# Altium integrated library N-Channel FET.IntLib: 448 symbols (part 8 of 8)
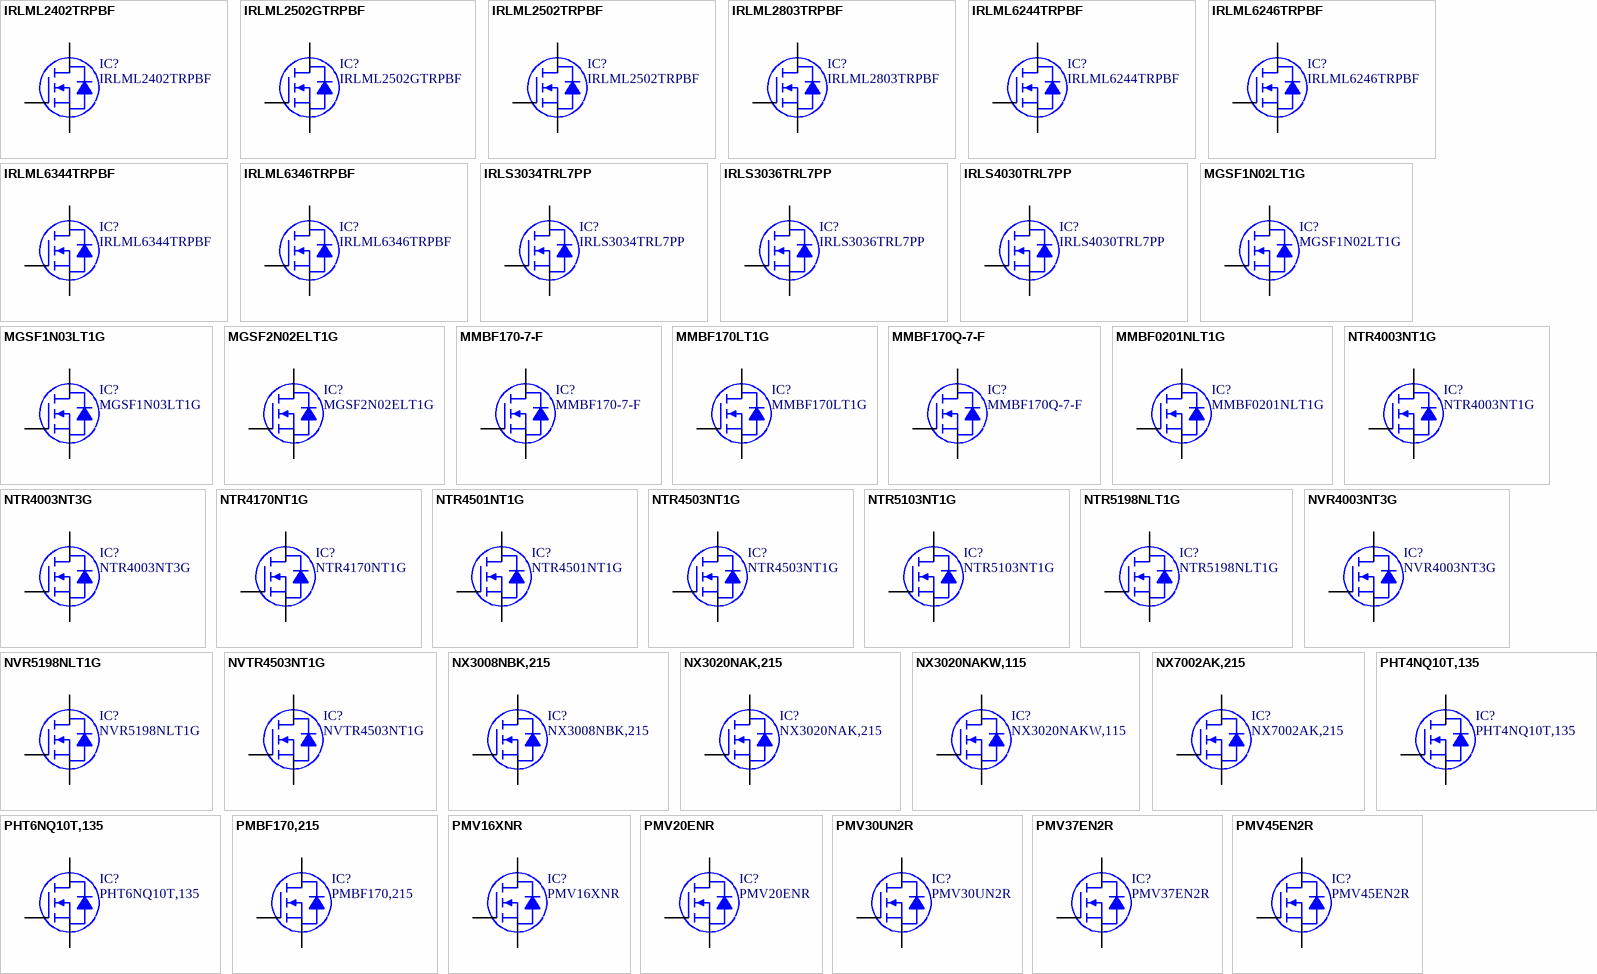
[diagram p18: symbols IRLML2402TRPBF to PMV45EN2R]

## NX3020NAK,215
designator IC?
MOSFET N-CH 30V 200MA TO-236AB; Manufacturer: NXP USA Inc.; Rds On (Max) at Id, Vgs: 4.5 Ohm @ 100mA, 10V; Vgs(th) (Max) at Id: 20V; Gate Charge (Qg): 0.44nC @ 4.5V; Input Capacitance (Ciss) at Vds: 13pF @ 10V; Current Continuous Drain: 200mA (Ta); Part Number: NX3020NAK,215; PartId: 29589; Supplier 1: Digi-Key; Supplier Part Number 1: 568-10504-1-ND; ComponentLink1Description: Datasheet; ComponentLink1URL: http://www.nxp.com/documents/data_sheet/NX3020NAK.pdf; ComponentLink2Description: Digi-Key Listing; ComponentLink2URL: https://www.digikey.com/product-detail/en/nxp-usa-inc/NX3020NAK,215/568-10504-1-ND/4386089; Price: 0.31; Type: N-Channel; Device Package: TO-236-3, SC-59, SOT-23-3; Drain to Source Voltage (Vdss): 30V
footprint NXP SOT-23-3 TO-236AB
pins: 1 G, 2 D, 3 S

## NX3020NAKW,115
designator IC?
MOSFET N-CH 30V 180MA SOT323; Manufacturer: NXP Semiconductors; Rds On (Max) at Id, Vgs: 4.5 Ohm @ 100mA, 10V; Vgs(th) (Max) at Id: 1.5V @ 250uA; Gate Charge (Qg): 0.44nC @ 4.5V; Input Capacitance (Ciss) at Vds: 13pF @ 10V; Power - Max: 260mW; Current Continuous Drain: 180mA (Ta); Part Number: NX3020NAKW,115; PartId: 8080; Supplier 1: Digi-Key; Supplier Part Number 1: 568-10508-2-ND; ComponentLink1Description: Datasheet; ComponentLink1URL: http://www.nxp.com/documents/data_sheet/NX3020NAKW.pdf; ComponentLink2Description: Digi-Key Listing; ComponentLink2URL: http://www.digikey.com/product-detail/en/NX3020NAKW,115/568-10508-2-ND/3679428; Price: 0.0369; Type: MOSFET N-Channel, Metal Oxide; Device Package: SC-70, SOT-323; Drain to Source Voltage (Vdss): 30V; Features: Standard
footprint NXP SOT-323-3
pins: 1 G, 2 D, 3 S

## NX7002AK,215
designator IC?
MOSFET N-CH 60V TO-236AB; Manufacturer: NXP USA Inc.; Rds On (Max) at Id, Vgs: 4.5 Ohm @ 100mA, 10V; Vgs(th) (Max) at Id: 20V; Gate Charge (Qg): 0.43nC @ 4.5V; Input Capacitance (Ciss) at Vds: 17pF @ 10V; Current Continuous Drain: 190mA (Ta); Part Number: NX7002AK,215; PartId: 29591; Supplier 1: Digi-Key; Supplier Part Number 1: 568-10510-1-ND; ComponentLink1Description: Datasheet; ComponentLink1URL: http://www.nxp.com/documents/data_sheet/NX7002AK.pdf; ComponentLink2Description: Digi-Key Listing; ComponentLink2URL: https://www.digikey.com/product-detail/en/nxp-usa-inc/NX7002AK,215/568-10510-1-ND/4386095; Price: 0.4; Type: N-Channel; Device Package: TO-236-3, SC-59, SOT-23-3; Drain to Source Voltage (Vdss): 60V
footprint NXP SOT-23-3 TO-236AB
pins: 1 G, 2 D, 3 S

## PHT4NQ10T,135
designator IC?
MOSFET N-CH 100V 3.5A SOT223; Manufacturer: NXP USA Inc.; Rds On (Max) at Id, Vgs: 250 mOhm @ 1.75A, 10V; Vgs(th) (Max) at Id: 20V; Gate Charge (Qg): 7.4nC @ 10V; Input Capacitance (Ciss) at Vds: 300pF @ 25V; Current Continuous Drain: 3.5A (Tc); Part Number: PHT4NQ10T,135; PartId: 29634; Supplier 1: Digi-Key; Supplier Part Number 1: 568-6777-1-ND; ComponentLink1Description: Datasheet; ComponentLink1URL: http://www.nxp.com/documents/data_sheet/PHT4NQ10T.pdf; ComponentLink2Description: Digi-Key Listing; ComponentLink2URL: https://www.digikey.com/product-detail/en/nxp-usa-inc/PHT4NQ10T,135/568-6777-1-ND/2676817; Price: 0.92; Type: N-Channel; Device Package: TO-261-4, TO-261AA; Drain to Source Voltage (Vdss): 100V
footprint NXP SOT-223
pins: 1 G, 2 D, 3 S, 4 D

## PHT6NQ10T,135
designator IC?
MOSFET N-CH 100V 3A SOT223; Manufacturer: NXP USA Inc.; Rds On (Max) at Id, Vgs: 90 mOhm @ 3A, 10V; Vgs(th) (Max) at Id: 20V; Gate Charge (Qg): 21nC @ 10V; Input Capacitance (Ciss) at Vds: 633pF @ 25V; Current Continuous Drain: 3A (Ta); Part Number: PHT6NQ10T,135; PartId: 29636; Supplier 1: Digi-Key; Supplier Part Number 1: 568-6791-1-ND; ComponentLink1Description: Datasheet; ComponentLink1URL: http://www.nxp.com/documents/data_sheet/PHT6NQ10T.pdf; ComponentLink2Description: Digi-Key Listing; ComponentLink2URL: https://www.digikey.com/product-detail/en/nxp-usa-inc/PHT6NQ10T,135/568-6791-1-ND/2676831; Price: 1.44; Type: N-Channel; Device Package: TO-261-4, TO-261AA; Drain to Source Voltage (Vdss): 100V
footprint NXP SOT-223
pins: 1 G, 2 D, 3 S, 4 D

## PMBF170,215
designator IC?
MOSFET N-CH 60V 300MA SOT-23; Manufacturer: NXP USA Inc.; Rds On (Max) at Id, Vgs: 5 Ohm @ 500mA, 10V; Vgs(th) (Max) at Id: 20V; Input Capacitance (Ciss) at Vds: 40pF @ 10V; Current Continuous Drain: 300mA (Ta); Part Number: PMBF170,215; PartId: 29597; Supplier 1: Digi-Key; Supplier Part Number 1: 568-6477-1-ND; ComponentLink1Description: Datasheet; ComponentLink1URL: http://www.nxp.com/documents/data_sheet/PMBF170.pdf; ComponentLink2Description: Digi-Key Listing; ComponentLink2URL: https://www.digikey.com/product-detail/en/nxp-usa-inc/PMBF170,215/568-6477-1-ND/2531764; Price: 0.54; Type: N-Channel; Device Package: TO-236-3, SC-59, SOT-23-3; Drain to Source Voltage (Vdss): 60V
footprint NXP SOT-23-3 TO-236AB
pins: 1 G, 2 D, 3 S

## PMV16XNR
designator IC?
MOSFET N-CH 20V SOT23; Manufacturer: NXP Semiconductors; Rds On (Max) at Id, Vgs: 20 mOhm @ 6.8A, 4.5V; Vgs(th) (Max) at Id: 900mV @ 250uA; Gate Charge (Qg): 20.2nC @ 4.5V; Input Capacitance (Ciss) at Vds: 1240pF @ 10V; Power - Max: 510mW; Current Continuous Drain: 6.8A (Ta); Part Number: PMV16XNR; PartId: 8073; Supplier 1: Digi-Key; Supplier Part Number 1: 568-12586-2-ND; ComponentLink1Description: Datasheet; ComponentLink1URL: http://www.nxp.com/documents/data_sheet/PMV16XN.pdf; ComponentLink2Description: Digi-Key Listing; ComponentLink2URL: http://www.digikey.com/product-detail/en/PMV16XNR/568-12586-2-ND/5395791; Price: 0.1072; Type: MOSFET N-Channel, Metal Oxide; Device Package: TO-236-3, SC-59, SOT-23-3; Drain to Source Voltage (Vdss): 20V; Features: Standard
footprint NXP SOT-23-3 TO-236AB
pins: 1 G, 2 D, 3 S

## PMV20ENR
designator IC?
MOSFET N-CH 30V SOT23; Manufacturer: NXP Semiconductors; Rds On (Max) at Id, Vgs: 21 mOhm @ 6A, 10V; Vgs(th) (Max) at Id: 2V @ 250uA; Gate Charge (Qg): 10.8nC @ 10V; Input Capacitance (Ciss) at Vds: 435pF @ 15V; Power - Max: 510mW; Current Continuous Drain: 6A (Ta); Part Number: PMV20ENR; PartId: 8074; Supplier 1: Digi-Key; Supplier Part Number 1: 568-12587-2-ND; ComponentLink1Description: Datasheet; ComponentLink1URL: http://www.nxp.com/documents/data_sheet/PMV20EN.pdf; ComponentLink2Description: Digi-Key Listing; ComponentLink2URL: http://www.digikey.com/product-detail/en/PMV20ENR/568-12587-2-ND/5395792; Price: 0.1072; Type: MOSFET N-Channel, Metal Oxide; Device Package: TO-236-3, SC-59, SOT-23-3; Drain to Source Voltage (Vdss): 30V; Features: Logic Level Gate
footprint NXP SOT-23-3 TO-236AB
pins: 1 G, 2 D, 3 S

## PMV30UN2R
designator IC?
MOSFET N-CH 20V SOT23; Manufacturer: NXP USA Inc.; Rds On (Max) at Id, Vgs: 32 mOhm @ 4.2A, 4.5V; Vgs(th) (Max) at Id: 12V; Gate Charge (Qg): 11nC @ 4.5V; Input Capacitance (Ciss) at Vds: 655pF @ 10V; Current Continuous Drain: 4.2A (Ta); Part Number: PMV30UN2R; PartId: 29586; Supplier 1: Digi-Key; Supplier Part Number 1: 568-12591-1-ND; ComponentLink1Description: Datasheet; ComponentLink1URL: http://www.nxp.com/documents/data_sheet/PMV30UN2.pdf; ComponentLink2Description: Digi-Key Listing; ComponentLink2URL: https://www.digikey.com/product-detail/en/nxp-usa-inc/PMV30UN2R/568-12591-1-ND/5395607; Price: 0.67; Type: N-Channel; Device Package: TO-236-3, SC-59, SOT-23-3; Drain to Source Voltage (Vdss): 20V
footprint NXP SOT-23-3 TO-236AB
pins: 1 G, 2 D, 3 S

## PMV37EN2R
designator IC?
MOSFET N-CH 30V SOT23; Manufacturer: NXP USA Inc.; Rds On (Max) at Id, Vgs: 36 mOhm @ 4.5A, 10V; Vgs(th) (Max) at Id: 20V; Gate Charge (Qg): 6.3nC @ 10V; Input Capacitance (Ciss) at Vds: 209pF @ 15V; Current Continuous Drain: 4.5A (Ta); Part Number: PMV37EN2R; PartId: 29599; Supplier 1: Digi-Key; Supplier Part Number 1: 568-12592-1-ND; ComponentLink1Description: Datasheet; ComponentLink1URL: http://www.nxp.com/documents/data_sheet/PMV37EN2.pdf; ComponentLink2Description: Digi-Key Listing; ComponentLink2URL: https://www.digikey.com/product-detail/en/nxp-usa-inc/PMV37EN2R/568-12592-1-ND/5395608; Price: 0.67; Type: N-Channel; Device Package: TO-236-3, SC-59, SOT-23-3; Drain to Source Voltage (Vdss): 30V
footprint NXP SOT-23-3 TO-236AB
pins: 1 G, 2 D, 3 S

## PMV45EN2R
designator IC?
MOSFET N-CH 30V SOT23; Manufacturer: NXP USA Inc.; Rds On (Max) at Id, Vgs: 42 mOhm @ 4.1A, 10V; Vgs(th) (Max) at Id: 20V; Gate Charge (Qg): 6.3nC @ 10V; Input Capacitance (Ciss) at Vds: 209pF @ 15V; Current Continuous Drain: 4.1A (Ta); Part Number: PMV45EN2R; PartId: 29582; Supplier 1: Digi-Key; Supplier Part Number 1: 568-12593-1-ND; ComponentLink1Description: Datasheet; ComponentLink1URL: http://www.nxp.com/documents/data_sheet/PMV45EN2.pdf; ComponentLink2Description: Digi-Key Listing; ComponentLink2URL: https://www.digikey.com/product-detail/en/nxp-usa-inc/PMV45EN2R/568-12593-1-ND/5395609; Price: 0.63; Type: N-Channel; Device Package: TO-236-3, SC-59, SOT-23-3; Drain to Source Voltage (Vdss): 30V
footprint NXP SOT-23-3 TO-236AB
pins: 1 G, 2 D, 3 S

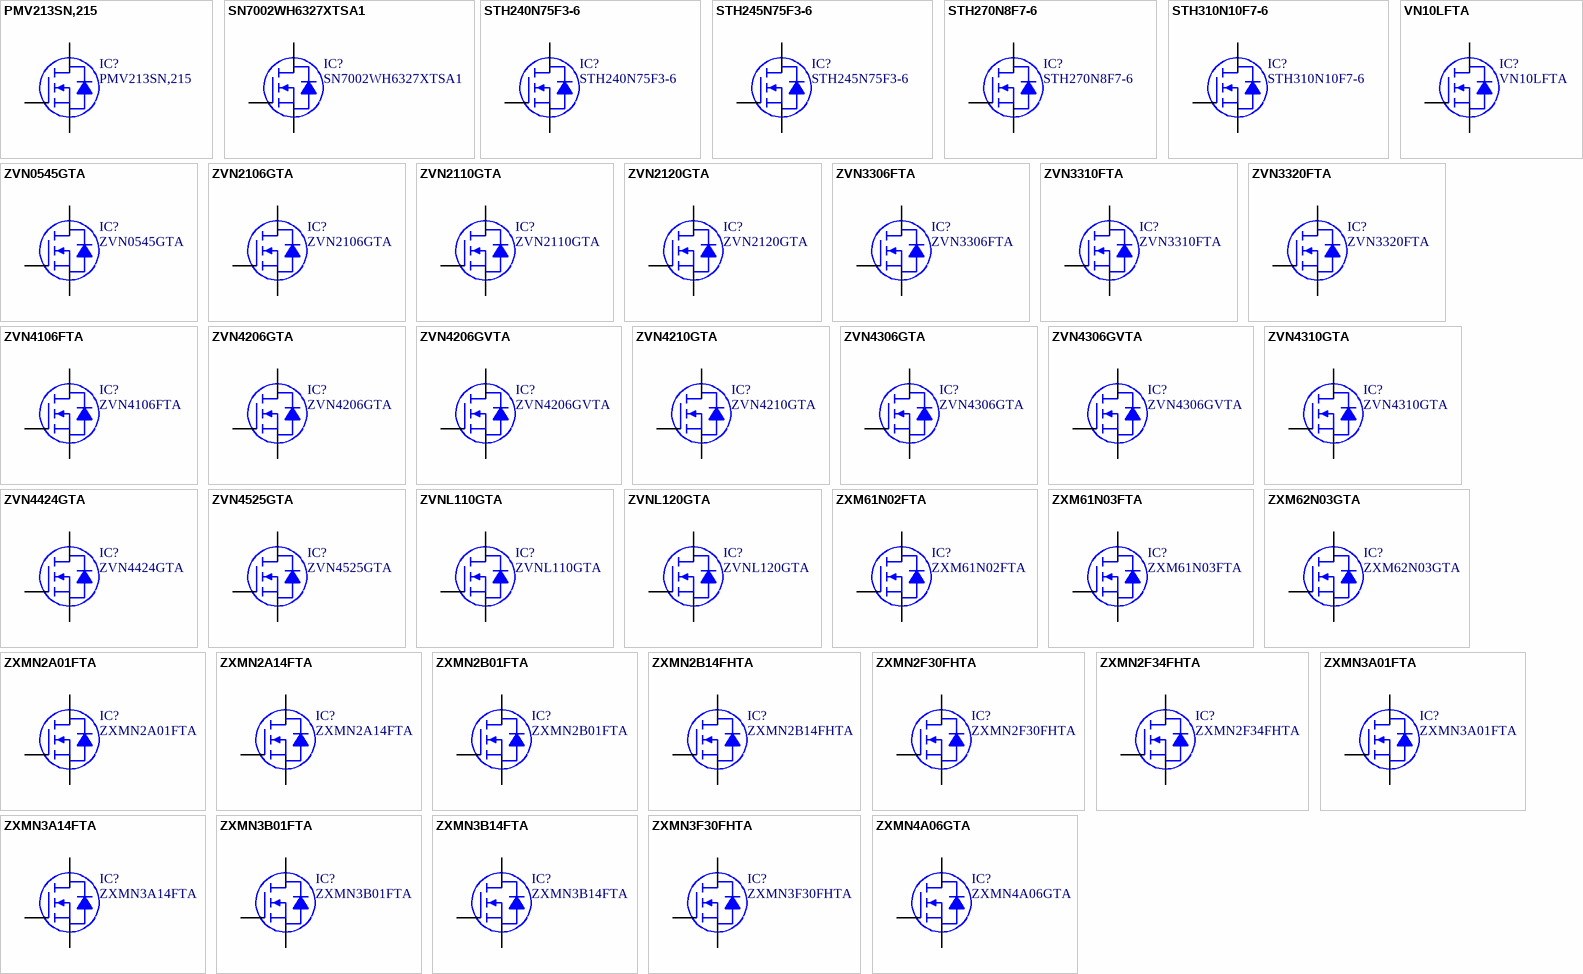
[diagram p10: symbols PMV213SN,215 to ZXMN4A06GTA]

## PMV213SN,215
designator IC?
MOSFET N-CH 100V 1.9A SOT23; Manufacturer: NXP USA Inc.; Rds On (Max) at Id, Vgs: 250 mOhm @ 500mA, 10V; Vgs(th) (Max) at Id: 30V; Gate Charge (Qg): 7nC @ 10V; Input Capacitance (Ciss) at Vds: 330pF @ 20V; Current Continuous Drain: 1.9A (Tc); Part Number: PMV213SN,215; PartId: 29587; Supplier 1: Digi-Key; Supplier Part Number 1: 568-8112-1-ND; ComponentLink1Description: Datasheet; ComponentLink1URL: http://www.nxp.com/documents/data_sheet/PMV213SN.pdf; ComponentLink2Description: Digi-Key Listing; ComponentLink2URL: https://www.digikey.com/product-detail/en/nxp-usa-inc/PMV213SN,215/568-8112-1-ND/2762802; Price: 0.81; Type: N-Channel; Device Package: TO-236-3, SC-59, SOT-23-3; Drain to Source Voltage (Vdss): 100V
footprint NXP SOT-23-3 TO-236AB
pins: 1 G, 2 D, 3 S

## SN7002WH6327XTSA1
designator IC?
MOSFET N-CH 60V 230MA SOT-323; Manufacturer: Infineon Technologies; Rds On (Max) at Id, Vgs: 5 Ohm @ 230mA, 10V; Vgs(th) (Max) at Id: 1.8V @ 26uA; Gate Charge (Qg): 1.5nC @ 10V; Input Capacitance (Ciss) at Vds: 45pF @ 25V; Power - Max: 500mW; Current Continuous Drain: 230mA (Ta); Part Number: SN7002WH6327XTSA1; PartId: 8083; Supplier 1: Digi-Key; Supplier Part Number 1: SN7002WH6327XTSA1TR-ND; ComponentLink1Description: Datasheet; ComponentLink1URL: http://www.infineon.com/dgdl/Infineon-SN7002W-DS-v02_05-en.pdf?fileId=db3a3043344adb9d0134569a59ab6195; ComponentLink2Description: Digi-Key Listing; ComponentLink2URL: http://www.digikey.com/product-detail/en/SN7002WH6327XTSA1/SN7002WH6327XTSA1TR-ND/5410145; Price: 0.0462; Type: MOSFET N-Channel, Metal Oxide; Device Package: SC-70, SOT-323; Drain to Source Voltage (Vdss): 60V; Features: Logic Level Gate
footprint INFINEON SOT-323-3
pins: 1 G, 2 D, 3 S

## STH240N75F3-6
designator IC?
MOSFET N-CH 75V 180A H2PAK; Manufacturer: STMicroelectronics; Rds On (Max) at Id, Vgs: 3 mOhm @ 90A, 10V; Vgs(th) (Max) at Id: 4V @ 250uA; Gate Charge (Qg): 100nC @ 10V; Input Capacitance (Ciss) at Vds: 6800pF @ 25V; Power - Max: 300W; Current Continuous Drain: 180A (Tc); Part Number: STH240N75F3-6; PartId: 8047; Supplier 1: Digi-Key; Supplier Part Number 1: 497-11841-2-ND; ComponentLink1Description: Datasheet; ComponentLink1URL: http://www.st.com/web/en/resource/technical/document/datasheet/DM00022877.pdf; ComponentLink2Description: Digi-Key Listing; ComponentLink2URL: http://www.digikey.com/product-detail/en/STH240N75F3-6/497-11841-2-ND/2756490; Price: 3.304; Type: MOSFET N-Channel, Metal Oxide; Device Package: TO-263-7, DPak (6 Leads + Tab); Drain to Source Voltage (Vdss): 75V; Features: Standard
footprint ST TO-263-7
pins: 1 G, 2 S, 3 S, 5 S, 6 S, 7 S, 8 D

## STH245N75F3-6
designator IC?
MOSFET N-CH 75V 180A H2PAK-6; Manufacturer: STMicroelectronics; Rds On (Max) at Id, Vgs: 3 mOhm @ 90A, 10V; Vgs(th) (Max) at Id: 4V @ 250uA; Gate Charge (Qg): 87nC @ 10V; Input Capacitance (Ciss) at Vds: 6800pF @ 25V; Power - Max: 300W; Current Continuous Drain: 180A (Tc); Part Number: STH245N75F3-6; PartId: 8046; Supplier 1: Digi-Key; Supplier Part Number 1: 497-15470-2-ND; ComponentLink1Description: Datasheet; ComponentLink1URL: http://www.st.com/web/en/resource/technical/document/datasheet/DM00114770.pdf; ComponentLink2Description: Digi-Key Listing; ComponentLink2URL: http://www.digikey.com/product-detail/en/STH245N75F3-6/497-15470-2-ND/5244726; Price: 3.0716; Type: MOSFET N-Channel, Metal Oxide; Device Package: TO-263-7, DPak (6 Leads + Tab); Drain to Source Voltage (Vdss): 75V; Features: Standard
footprint ST TO-263-7
pins: 1 G, 2 S, 3 S, 5 S, 6 S, 7 S, 8 D

## STH270N8F7-6
designator IC?
MOSFET N-CH 80V 180A H2PAK-6; Manufacturer: STMicroelectronics; Rds On (Max) at Id, Vgs: 2.1 mOhm @ 90A, 10V; Vgs(th) (Max) at Id: 4V @ 250uA; Gate Charge (Qg): 193nC @ 10V; Input Capacitance (Ciss) at Vds: 13600pF @ 50V; Power - Max: 315W; Current Continuous Drain: 180A (Tc); Part Number: STH270N8F7-6; PartId: 8045; Supplier 1: Digi-Key; Supplier Part Number 1: 497-13874-2-ND; ComponentLink1Description: Datasheet; ComponentLink1URL: http://www.st.com/web/en/resource/technical/document/datasheet/DM00071594.pdf; ComponentLink2Description: Digi-Key Listing; ComponentLink2URL: http://www.digikey.com/product-detail/en/STH270N8F7-6/497-13874-2-ND/4250809; Price: 3.8596; Type: MOSFET N-Channel, Metal Oxide; Device Package: TO-263-7, DPak (6 Leads + Tab); Drain to Source Voltage (Vdss): 80V; Features: Standard
footprint ST TO-263-7
pins: 1 G, 2 S, 3 S, 5 S, 6 S, 7 S, 8 D

## STH310N10F7-6
designator IC?
MOSFET N-CH 100V 180A H2PAK-2; Manufacturer: STMicroelectronics; Rds On (Max) at Id, Vgs: 2.5 mOhm @ 60A, 10V; Vgs(th) (Max) at Id: 3.8V @ 250uA; Gate Charge (Qg): 180nC @ 10V; Input Capacitance (Ciss) at Vds: 12800pF @ 25V; Power - Max: 315W; Current Continuous Drain: 180A (Tc); Part Number: STH310N10F7-6; PartId: 8044; Supplier 1: Digi-Key; Supplier Part Number 1: 497-13586-2-ND; ComponentLink1Description: Datasheet; ComponentLink1URL: http://www.st.com/st-web-ui/static/active/en/resource/technical/document/datasheet/DM00072096.pdf; ComponentLink2Description: Digi-Key Listing; ComponentLink2URL: http://www.digikey.com/product-detail/en/STH310N10F7-6/497-13586-2-ND/3910864; Price: 3.537; Type: MOSFET N-Channel, Metal Oxide; Device Package: TO-263-7, DPak (6 Leads + Tab) Variant; Drain to Source Voltage (Vdss): 100V; Features: Standard
footprint ST TO-263-7
pins: 1 G, 2 S, 3 S, 5 S, 6 S, 7 S, 8 D

## VN10LFTA
designator IC?
MOSFET N-CH 60V 150MA SOT23-3; Manufacturer: Diodes Incorporated; Rds On (Max) at Id, Vgs: 5 Ohm @ 500mA, 10V; Vgs(th) (Max) at Id: 30V; Input Capacitance (Ciss) at Vds: 60pF @ 25V; Current Continuous Drain: 150mA (Ta); Part Number: VN10LFTA; PartId: 29511; Supplier 1: Digi-Key; Supplier Part Number 1: VN10LFCT-ND; ComponentLink1Description: Datasheet; ComponentLink1URL: //media.digikey.com/pdf/Data%20Sheets/Zetex%20PDFs/VN10LF.PDF; ComponentLink2Description: Digi-Key Listing; ComponentLink2URL: https://www.digikey.com/product-detail/en/diodes-incorporated/VN10LFTA/VN10LFCT-ND/92634; Price: 0.76; Type: N-Channel; Device Package: TO-236-3, SC-59, SOT-23-3; Drain to Source Voltage (Vdss): 60V
footprint DIODES SOT-23-3
pins: 1 G, 2 D, 3 S

## ZVN0545GTA
designator IC?
MOSFET N-CH 450V 140MA SOT223; Manufacturer: Diodes Incorporated; Rds On (Max) at Id, Vgs: 50 Ohm @ 100mA, 10V; Vgs(th) (Max) at Id: 20V; Input Capacitance (Ciss) at Vds: 70pF @ 25V; Current Continuous Drain: 140mA (Ta); Part Number: ZVN0545GTA; PartId: 29656; Supplier 1: Digi-Key; Supplier Part Number 1: ZVN0545GCT-ND; ComponentLink1Description: Datasheet; ComponentLink1URL: http://www.diodes.com/_files/datasheets/ZVN0545G.pdf; ComponentLink2Description: Digi-Key Listing; ComponentLink2URL: https://www.digikey.com/product-detail/en/diodes-incorporated/ZVN0545GTA/ZVN0545GCT-ND/152475; Price: 1.25; Type: N-Channel; Device Package: TO-261-4, TO-261AA; Drain to Source Voltage (Vdss): 450V
footprint DIODES SOT-223
pins: 1 G, 2 D, 3 S, 4 D

## ZVN2106GTA
designator IC?
MOSFET N-CH 60V 710MA SOT223; Manufacturer: Diodes Incorporated; Rds On (Max) at Id, Vgs: 2 Ohm @ 1A, 10V; Vgs(th) (Max) at Id: 20V; Input Capacitance (Ciss) at Vds: 75pF @ 18V; Current Continuous Drain: 710mA (Ta); Part Number: ZVN2106GTA; PartId: 29669; Supplier 1: Digi-Key; Supplier Part Number 1: ZVN2106GCT-ND; ComponentLink1Description: Datasheet; ComponentLink1URL: http://www.diodes.com/_files/datasheets/ZVN2106G.pdf; ComponentLink2Description: Digi-Key Listing; ComponentLink2URL: https://www.digikey.com/product-detail/en/diodes-incorporated/ZVN2106GTA/ZVN2106GCT-ND/106458; Price: 1.25; Type: N-Channel; Device Package: TO-261-4, TO-261AA; Drain to Source Voltage (Vdss): 60V
footprint DIODES SOT-223
pins: 1 G, 2 D, 3 S, 4 D

## ZVN2110GTA
designator IC?
MOSFET N-CH 100V 500MA SOT223; Manufacturer: Diodes Incorporated; Rds On (Max) at Id, Vgs: 4 Ohm @ 1A, 10V; Vgs(th) (Max) at Id: 20V; Input Capacitance (Ciss) at Vds: 75pF @ 25V; Current Continuous Drain: 500mA (Ta); Part Number: ZVN2110GTA; PartId: 29657; Supplier 1: Digi-Key; Supplier Part Number 1: ZVN2110GCT-ND; ComponentLink1Description: Datasheet; ComponentLink1URL: http://www.diodes.com/_files/datasheets/ZVN2110G.pdf; ComponentLink2Description: Digi-Key Listing; ComponentLink2URL: https://www.digikey.com/product-detail/en/diodes-incorporated/ZVN2110GTA/ZVN2110GCT-ND/152477; Price: 1.25; Type: N-Channel; Device Package: TO-261-4, TO-261AA; Drain to Source Voltage (Vdss): 100V
footprint DIODES SOT-223
pins: 1 G, 2 D, 3 S, 4 D

## ZVN2120GTA
designator IC?
MOSFET N-CH 200V 320MA SOT223; Manufacturer: Diodes Incorporated; Rds On (Max) at Id, Vgs: 10 Ohm @ 250mA, 10V; Vgs(th) (Max) at Id: 20V; Input Capacitance (Ciss) at Vds: 85pF @ 25V; Current Continuous Drain: 320mA (Ta); Part Number: ZVN2120GTA; PartId: 29667; Supplier 1: Digi-Key; Supplier Part Number 1: ZVN2120GCT-ND; ComponentLink1Description: Datasheet; ComponentLink1URL: http://www.diodes.com/_files/datasheets/ZVN2120G.pdf; ComponentLink2Description: Digi-Key Listing; ComponentLink2URL: https://www.digikey.com/product-detail/en/diodes-incorporated/ZVN2120GTA/ZVN2120GCT-ND/152479; Price: 1.25; Type: N-Channel; Device Package: TO-261-4, TO-261AA; Drain to Source Voltage (Vdss): 200V
footprint DIODES SOT-223
pins: 1 G, 2 D, 3 S, 4 D

## ZVN3306FTA
designator IC?
MOSFET N-CH 60V 150MA SOT23-3; Manufacturer: Diodes Incorporated; Rds On (Max) at Id, Vgs: 5 Ohm @ 500mA, 10V; Vgs(th) (Max) at Id: 20V; Input Capacitance (Ciss) at Vds: 35pF @ 18V; Current Continuous Drain: 150mA (Ta); Part Number: ZVN3306FTA; PartId: 29514; Supplier 1: Digi-Key; Supplier Part Number 1: ZVN3306FCT-ND; ComponentLink1Description: Datasheet; ComponentLink1URL: http://www.diodes.com/_files/datasheets/ZVN3306F.pdf; ComponentLink2Description: Digi-Key Listing; ComponentLink2URL: https://www.digikey.com/product-detail/en/diodes-incorporated/ZVN3306FTA/ZVN3306FCT-ND/92635; Price: 0.88; Type: N-Channel; Device Package: TO-236-3, SC-59, SOT-23-3; Drain to Source Voltage (Vdss): 60V
footprint DIODES SOT-23-3
pins: 1 G, 2 D, 3 S

## ZVN3310FTA
designator IC?
MOSFET N-CH 100V .1A SOT23-3; Manufacturer: Diodes Incorporated; Rds On (Max) at Id, Vgs: 10 Ohm @ 500mA, 10V; Vgs(th) (Max) at Id: 20V; Input Capacitance (Ciss) at Vds: 40pF @ 25V; Current Continuous Drain: 100mA (Ta); Part Number: ZVN3310FTA; PartId: 29513; Supplier 1: Digi-Key; Supplier Part Number 1: ZVN3310FCT-ND; ComponentLink1Description: Datasheet; ComponentLink1URL: http://www.diodes.com/_files/datasheets/ZVN3310F.pdf; ComponentLink2Description: Digi-Key Listing; ComponentLink2URL: https://www.digikey.com/product-detail/en/diodes-incorporated/ZVN3310FTA/ZVN3310FCT-ND/92636; Price: 0.88; Type: N-Channel; Device Package: TO-236-3, SC-59, SOT-23-3; Drain to Source Voltage (Vdss): 100V
footprint DIODES SOT-23-3
pins: 1 G, 2 D, 3 S

## ZVN3320FTA
designator IC?
MOSFET N-CH 200V 60MA SOT23-3; Manufacturer: Diodes Incorporated; Rds On (Max) at Id, Vgs: 25 Ohm @ 100mA, 10V; Vgs(th) (Max) at Id: 20V; Input Capacitance (Ciss) at Vds: 45pF @ 25V; Current Continuous Drain: 60mA (Ta); Part Number: ZVN3320FTA; PartId: 29506; Supplier 1: Digi-Key; Supplier Part Number 1: ZVN3320FCT-ND; ComponentLink1Description: Datasheet; ComponentLink1URL: http://www.diodes.com/_files/datasheets/ZVN3320F.pdf; ComponentLink2Description: Digi-Key Listing; ComponentLink2URL: https://www.digikey.com/product-detail/en/diodes-incorporated/ZVN3320FTA/ZVN3320FCT-ND/152481; Price: 0.63; Type: N-Channel; Device Package: TO-236-3, SC-59, SOT-23-3; Drain to Source Voltage (Vdss): 200V
footprint DIODES SOT-23-3
pins: 1 G, 2 D, 3 S

## ZVN4106FTA
designator IC?
MOSFET N-CH 60V 200MA SOT23-3; Manufacturer: Diodes Incorporated; Rds On (Max) at Id, Vgs: 2.5 Ohm @ 500mA, 10V; Vgs(th) (Max) at Id: 20V; Input Capacitance (Ciss) at Vds: 35pF @ 25V; Current Continuous Drain: 200mA (Ta); Part Number: ZVN4106FTA; PartId: 29516; Supplier 1: Digi-Key; Supplier Part Number 1: ZVN4106FCT-ND; ComponentLink1Description: Datasheet; ComponentLink1URL: http://www.diodes.com/_files/datasheets/ZVN4106F.pdf; ComponentLink2Description: Digi-Key Listing; ComponentLink2URL: https://www.digikey.com/product-detail/en/diodes-incorporated/ZVN4106FTA/ZVN4106FCT-ND/92637; Price: 0.97; Type: N-Channel; Device Package: TO-236-3, SC-59, SOT-23-3; Drain to Source Voltage (Vdss): 60V
footprint DIODES SOT-23-3
pins: 1 G, 2 D, 3 S

## ZVN4206GTA
designator IC?
MOSFET N-CH 60V 1A SOT223; Manufacturer: Diodes Incorporated; Rds On (Max) at Id, Vgs: 1 Ohm @ 1.5A, 10V; Vgs(th) (Max) at Id: 20V; Input Capacitance (Ciss) at Vds: 100pF @ 25V; Current Continuous Drain: 1A (Ta); Part Number: ZVN4206GTA; PartId: 29659; Supplier 1: Digi-Key; Supplier Part Number 1: ZVN4206GCT-ND; ComponentLink1Description: Datasheet; ComponentLink1URL: http://www.diodes.com/_files/datasheets/ZVN4206G.pdf; ComponentLink2Description: Digi-Key Listing; ComponentLink2URL: https://www.digikey.com/product-detail/en/diodes-incorporated/ZVN4206GTA/ZVN4206GCT-ND/152483; Price: 1.35; Type: N-Channel; Device Package: TO-261-4, TO-261AA; Drain to Source Voltage (Vdss): 60V
footprint DIODES SOT-223
pins: 1 G, 2 D, 3 S, 4 D

## ZVN4206GVTA
designator IC?
MOSFET N-CH 60V 1A SOT223; Manufacturer: Diodes Incorporated; Rds On (Max) at Id, Vgs: 1 Ohm @ 1.5A, 10V; Vgs(th) (Max) at Id: 20V; Input Capacitance (Ciss) at Vds: 100pF @ 25V; Current Continuous Drain: 1A (Ta); Part Number: ZVN4206GVTA; PartId: 29649; Supplier 1: Digi-Key; Supplier Part Number 1: ZVN4206GVCT-ND; ComponentLink1Description: Datasheet; ComponentLink1URL: http://www.diodes.com/_files/datasheets/ZVN4206GV.pdf; ComponentLink2Description: Digi-Key Listing; ComponentLink2URL: https://www.digikey.com/product-detail/en/diodes-incorporated/ZVN4206GVTA/ZVN4206GVCT-ND/96083; Price: 1.36; Type: N-Channel; Device Package: TO-261-4, TO-261AA; Drain to Source Voltage (Vdss): 60V
footprint DIODES SOT-223
pins: 1 G, 2 D, 3 S, 4 D

## ZVN4210GTA
designator IC?
MOSFET N-CH 100V 800MA SOT223; Manufacturer: Diodes Incorporated; Rds On (Max) at Id, Vgs: 1.5 Ohm @ 1.5A, 10V; Vgs(th) (Max) at Id: 20V; Input Capacitance (Ciss) at Vds: 100pF @ 25V; Current Continuous Drain: 800mA (Ta); Part Number: ZVN4210GTA; PartId: 29663; Supplier 1: Digi-Key; Supplier Part Number 1: ZVN4210GCT-ND; ComponentLink1Description: Datasheet; ComponentLink1URL: http://www.diodes.com/_files/datasheets/ZVN4210G.pdf; ComponentLink2Description: Digi-Key Listing; ComponentLink2URL: https://www.digikey.com/product-detail/en/diodes-incorporated/ZVN4210GTA/ZVN4210GCT-ND/991773; Price: 1.35; Type: N-Channel; Device Package: TO-261-4, TO-261AA; Drain to Source Voltage (Vdss): 100V
footprint DIODES SOT-223
pins: 1 G, 2 D, 3 S, 4 D

## ZVN4306GTA
designator IC?
MOSFET N-CH 60V 2.1A SOT223; Manufacturer: Diodes Incorporated; Rds On (Max) at Id, Vgs: 330 mOhm @ 3A, 10V; Vgs(th) (Max) at Id: 20V; Input Capacitance (Ciss) at Vds: 350pF @ 25V; Current Continuous Drain: 2.1A (Ta); Part Number: ZVN4306GTA; PartId: 29653; Supplier 1: Digi-Key; Supplier Part Number 1: ZVN4306GCT-ND; ComponentLink1Description: Datasheet; ComponentLink1URL: http://www.diodes.com/_files/datasheets/ZVN4306G.pdf; ComponentLink2Description: Digi-Key Listing; ComponentLink2URL: https://www.digikey.com/product-detail/en/diodes-incorporated/ZVN4306GTA/ZVN4306GCT-ND/190598; Price: 1.99; Type: N-Channel; Device Package: TO-261-4, TO-261AA; Drain to Source Voltage (Vdss): 60V
footprint DIODES SOT-223
pins: 1 G, 2 D, 3 S, 4 D

## ZVN4306GVTA
designator IC?
MOSFET N-CH 60V 2.1A SOT223; Manufacturer: Diodes Incorporated; Rds On (Max) at Id, Vgs: 330 mOhm @ 3A, 10V; Vgs(th) (Max) at Id: 20V; Input Capacitance (Ciss) at Vds: 350pF @ 25V; Current Continuous Drain: 2.1A (Ta); Part Number: ZVN4306GVTA; PartId: 29662; Supplier 1: Digi-Key; Supplier Part Number 1: ZVN4306GVCT-ND; ComponentLink1Description: Datasheet; ComponentLink1URL: http://www.diodes.com/_files/datasheets/ZVN4306GV.pdf; ComponentLink2Description: Digi-Key Listing; ComponentLink2URL: https://www.digikey.com/product-detail/en/diodes-incorporated/ZVN4306GVTA/ZVN4306GVCT-ND/243295; Price: 2.24; Type: N-Channel; Device Package: TO-261-4, TO-261AA; Drain to Source Voltage (Vdss): 60V
footprint DIODES SOT-223
pins: 1 G, 2 D, 3 S, 4 D

## ZVN4310GTA
designator IC?
MOSFET N-CH 100V 1.67A SOT223; Manufacturer: Diodes Incorporated; Rds On (Max) at Id, Vgs: 540 mOhm @ 3.3A, 10V; Vgs(th) (Max) at Id: 20V; Input Capacitance (Ciss) at Vds: 350pF @ 25V; Current Continuous Drain: 1.67A (Ta); Part Number: ZVN4310GTA; PartId: 29670; Supplier 1: Digi-Key; Supplier Part Number 1: ZVN4310GCT-ND; ComponentLink1Description: Datasheet; ComponentLink1URL: http://www.diodes.com/_files/datasheets/ZVN4310G.pdf; ComponentLink2Description: Digi-Key Listing; ComponentLink2URL: https://www.digikey.com/product-detail/en/diodes-incorporated/ZVN4310GTA/ZVN4310GCT-ND/96081; Price: 2.29; Type: N-Channel; Device Package: TO-261-4, TO-261AA; Drain to Source Voltage (Vdss): 100V
footprint DIODES SOT-223
pins: 1 G, 2 D, 3 S, 4 D

## ZVN4424GTA
designator IC?
MOSFET N-CH 240V 500MA SOT223; Manufacturer: Diodes Incorporated; Rds On (Max) at Id, Vgs: 5.5 Ohm @ 500mA, 10V; Vgs(th) (Max) at Id: 40V; Input Capacitance (Ciss) at Vds: 200pF @ 25V; Current Continuous Drain: 500mA (Ta); Part Number: ZVN4424GTA; PartId: 29660; Supplier 1: Digi-Key; Supplier Part Number 1: ZVN4424GCT-ND; ComponentLink1Description: Datasheet; ComponentLink1URL: http://www.diodes.com/_files/datasheets/ZVN4424G.pdf; ComponentLink2Description: Digi-Key Listing; ComponentLink2URL: https://www.digikey.com/product-detail/en/diodes-incorporated/ZVN4424GTA/ZVN4424GCT-ND/8814; Price: 1.57; Type: N-Channel; Device Package: TO-261-4, TO-261AA; Drain to Source Voltage (Vdss): 240V
footprint DIODES SOT-223
pins: 1 G, 2 D, 3 S, 4 D

## ZVN4525GTA
designator IC?
MOSFET N-CH 250V 310MA SOT223; Manufacturer: Diodes Incorporated; Rds On (Max) at Id, Vgs: 8.5 Ohm @ 500mA, 10V; Vgs(th) (Max) at Id: 40V; Gate Charge (Qg): 3.65nC @ 10V; Input Capacitance (Ciss) at Vds: 72pF @ 25V; Current Continuous Drain: 310mA (Ta); Part Number: ZVN4525GTA; PartId: 29647; Supplier 1: Digi-Key; Supplier Part Number 1: ZVN4525GCT-ND; ComponentLink1Description: Datasheet; ComponentLink1URL: http://www.diodes.com/_files/datasheets/ZVN4525G.pdf; ComponentLink2Description: Digi-Key Listing; ComponentLink2URL: https://www.digikey.com/product-detail/en/diodes-incorporated/ZVN4525GTA/ZVN4525GCT-ND/386033; Price: 1.31; Type: N-Channel; Device Package: TO-261-4, TO-261AA; Drain to Source Voltage (Vdss): 250V
footprint DIODES SOT-223
pins: 1 G, 2 D, 3 S, 4 D

## ZVNL110GTA
designator IC?
MOSFET N-CH 100V 600MA SOT223; Manufacturer: Diodes Incorporated; Rds On (Max) at Id, Vgs: 3 Ohm @ 500mA, 10V; Vgs(th) (Max) at Id: 20V; Input Capacitance (Ciss) at Vds: 75pF @ 25V; Current Continuous Drain: 600mA (Ta); Part Number: ZVNL110GTA; PartId: 29648; Supplier 1: Digi-Key; Supplier Part Number 1: ZVNL110GCT-ND; ComponentLink1Description: Datasheet; ComponentLink1URL: http://www.diodes.com/_files/datasheets/ZVNL110G.pdf; ComponentLink2Description: Digi-Key Listing; ComponentLink2URL: https://www.digikey.com/product-detail/en/diodes-incorporated/ZVNL110GTA/ZVNL110GCT-ND/152488; Price: 1.35; Type: N-Channel; Device Package: TO-261-4, TO-261AA; Drain to Source Voltage (Vdss): 100V
footprint DIODES SOT-223
pins: 1 G, 2 D, 3 S, 4 D

## ZVNL120GTA
designator IC?
MOSFET N-CH 200V 320MA SOT223; Manufacturer: Diodes Incorporated; Rds On (Max) at Id, Vgs: 10 Ohm @ 250mA, 5V; Vgs(th) (Max) at Id: 20V; Input Capacitance (Ciss) at Vds: 85pF @ 25V; Current Continuous Drain: 320mA (Ta); Part Number: ZVNL120GTA; PartId: 29658; Supplier 1: Digi-Key; Supplier Part Number 1: ZVNL120GCT-ND; ComponentLink1Description: Datasheet; ComponentLink1URL: http://www.diodes.com/_files/datasheets/ZVNL120G.pdf; ComponentLink2Description: Digi-Key Listing; ComponentLink2URL: https://www.digikey.com/product-detail/en/diodes-incorporated/ZVNL120GTA/ZVNL120GCT-ND/152491; Price: 1.35; Type: N-Channel; Device Package: TO-261-4, TO-261AA; Drain to Source Voltage (Vdss): 200V
footprint DIODES SOT-223
pins: 1 G, 2 D, 3 S, 4 D

## ZXM61N02FTA
designator IC?
MOSFET N-CH 20V 1.7A SOT23-3; Manufacturer: Diodes Incorporated; Rds On (Max) at Id, Vgs: 180 mOhm @ 930mA, 4.5V; Vgs(th) (Max) at Id: 12V; Gate Charge (Qg): 3.4nC @ 4.5V; Input Capacitance (Ciss) at Vds: 160pF @ 15V; Current Continuous Drain: 1.7A (Ta); Part Number: ZXM61N02FTA; PartId: 29508; Supplier 1: Digi-Key; Supplier Part Number 1: ZXM61N02FCT-ND; ComponentLink1Description: Datasheet; ComponentLink1URL: http://www.diodes.com/_files/datasheets/ZXM61N02F.pdf; ComponentLink2Description: Digi-Key Listing; ComponentLink2URL: https://www.digikey.com/product-detail/en/diodes-incorporated/ZXM61N02FTA/ZXM61N02FCT-ND/272443; Price: 0.66; Type: N-Channel; Device Package: TO-236-3, SC-59, SOT-23-3; Drain to Source Voltage (Vdss): 20V
footprint DIODES SOT-23-3
pins: 1 G, 2 D, 3 S

## ZXM61N03FTA
designator IC?
MOSFET N-CH 30V 1.4A SOT23-3; Manufacturer: Diodes Incorporated; Rds On (Max) at Id, Vgs: 220 mOhm @ 910mA, 10V; Vgs(th) (Max) at Id: 20V; Gate Charge (Qg): 4.1nC @ 10V; Input Capacitance (Ciss) at Vds: 150pF @ 25V; Current Continuous Drain: 1.4A (Ta); Part Number: ZXM61N03FTA; PartId: 29543; Supplier 1: Digi-Key; Supplier Part Number 1: ZXM61N03FCT-ND; ComponentLink1Description: Datasheet; ComponentLink1URL: http://www.diodes.com/_files/datasheets/ZXM61N03F.pdf; ComponentLink2Description: Digi-Key Listing; ComponentLink2URL: https://www.digikey.com/product-detail/en/diodes-incorporated/ZXM61N03FTA/ZXM61N03FCT-ND/272444; Price: 0.79; Type: N-Channel; Device Package: TO-236-3, SC-59, SOT-23-3; Drain to Source Voltage (Vdss): 30V
footprint DIODES SOT-23-3
pins: 1 G, 2 D, 3 S

## ZXM62N03GTA
designator IC?
MOSFET N-CH 30V ENHANCE SOT223; Manufacturer: Diodes Incorporated; Rds On (Max) at Id, Vgs: 110 mOhm @ 2.2A, 10V; Vgs(th) (Max) at Id: 20V; Gate Charge (Qg): 9.6nC @ 10V; Input Capacitance (Ciss) at Vds: 380pF @ 25V; Current Continuous Drain: 3.4A (Ta), 4.7A (Tc); Part Number: ZXM62N03GTA; PartId: 29666; Supplier 1: Digi-Key; Supplier Part Number 1: ZXM62N03GCT-ND; ComponentLink1Description: Datasheet; ComponentLink1URL: http://www.diodes.com/_files/datasheets/ZXM62N03G.pdf; ComponentLink2Description: Digi-Key Listing; ComponentLink2URL: https://www.digikey.com/product-detail/en/diodes-incorporated/ZXM62N03GTA/ZXM62N03GCT-ND/991877; Price: 1.19; Type: N-Channel; Device Package: TO-261-4, TO-261AA; Drain to Source Voltage (Vdss): 30V
footprint DIODES SOT-223
pins: 1 G, 2 D, 3 S, 4 D

## ZXMN2A01FTA
designator IC?
MOSFET N-CH 20V 1.9A SOT23-3; Manufacturer: Diodes Incorporated; Rds On (Max) at Id, Vgs: 120 mOhm @ 4A, 4.5V; Vgs(th) (Max) at Id: 12V; Gate Charge (Qg): 3nC @ 4.5V; Input Capacitance (Ciss) at Vds: 303pF @ 15V; Current Continuous Drain: 1.9A (Ta); Part Number: ZXMN2A01FTA; PartId: 29542; Supplier 1: Digi-Key; Supplier Part Number 1: ZXMN2A01FCT-ND; ComponentLink1Description: Datasheet; ComponentLink1URL: http://www.diodes.com/_files/datasheets/ZXMN2A01F.pdf; ComponentLink2Description: Digi-Key Listing; ComponentLink2URL: https://www.digikey.com/product-detail/en/diodes-incorporated/ZXMN2A01FTA/ZXMN2A01FCT-ND/386044; Price: 0.65; Type: N-Channel; Device Package: TO-236-3, SC-59, SOT-23-3; Drain to Source Voltage (Vdss): 20V
footprint DIODES SOT-23-3
pins: 1 G, 2 D, 3 S

## ZXMN2A14FTA
designator IC?
MOSFET N-CH 20V 3.4A SOT23-3; Manufacturer: Diodes Incorporated; Rds On (Max) at Id, Vgs: 60 mOhm @ 3.4A, 4.5V; Vgs(th) (Max) at Id: 12V; Gate Charge (Qg): 6.6nC @ 4.5V; Input Capacitance (Ciss) at Vds: 544pF @ 10V; Current Continuous Drain: 3.4A (Ta); Part Number: ZXMN2A14FTA; PartId: 29547; Supplier 1: Digi-Key; Supplier Part Number 1: ZXMN2A14FCT-ND; ComponentLink1Description: Datasheet; ComponentLink1URL: http://www.diodes.com/_files/datasheets/ZXMN2A14F.pdf; ComponentLink2Description: Digi-Key Listing; ComponentLink2URL: https://www.digikey.com/product-detail/en/diodes-incorporated/ZXMN2A14FTA/ZXMN2A14FCT-ND/560652; Price: 0.82; Type: N-Channel; Device Package: TO-236-3, SC-59, SOT-23-3; Drain to Source Voltage (Vdss): 20V
footprint DIODES SOT-23-3
pins: 1 G, 2 D, 3 S

## ZXMN2B01FTA
designator IC?
MOSFET N-CH 20V 2.1A SOT23-3; Manufacturer: Diodes Incorporated; Rds On (Max) at Id, Vgs: 100 mOhm @ 2.4A, 4.5V; Vgs(th) (Max) at Id: 8V; Gate Charge (Qg): 4.8nC @ 4.5V; Input Capacitance (Ciss) at Vds: 370pF @ 10V; Current Continuous Drain: 2.1A (Ta); Part Number: ZXMN2B01FTA; PartId: 29503; Supplier 1: Digi-Key; Supplier Part Number 1: ZXMN2B01FCT-ND; ComponentLink1Description: Datasheet; ComponentLink1URL: http://www.diodes.com/_files/datasheets/ZXMN2B01F.pdf; ComponentLink2Description: Digi-Key Listing; ComponentLink2URL: https://www.digikey.com/product-detail/en/diodes-incorporated/ZXMN2B01FTA/ZXMN2B01FCT-ND/1557764; Price: 0.66; Type: N-Channel; Device Package: TO-236-3, SC-59, SOT-23-3; Drain to Source Voltage (Vdss): 20V
footprint DIODES SOT-23-3
pins: 1 G, 2 D, 3 S

## ZXMN2B14FHTA
designator IC?
MOSFET N-CH 20V 3.5A SOT23-3; Manufacturer: Diodes Incorporated; Rds On (Max) at Id, Vgs: 55 mOhm @ 3.5A, 4.5V; Vgs(th) (Max) at Id: 8V; Gate Charge (Qg): 11nC @ 4.5V; Input Capacitance (Ciss) at Vds: 872pF @ 10V; Current Continuous Drain: 3.5A (Ta); Part Number: ZXMN2B14FHTA; PartId: 29575; Supplier 1: Digi-Key; Supplier Part Number 1: ZXMN2B14FHCT-ND; ComponentLink1Description: Datasheet; ComponentLink1URL: http://www.diodes.com/_files/datasheets/ZXMN2B14FH.pdf; ComponentLink2Description: Digi-Key Listing; ComponentLink2URL: https://www.digikey.com/product-detail/en/diodes-incorporated/ZXMN2B14FHTA/ZXMN2B14FHCT-ND/1557766; Price: 1.14; Type: N-Channel; Device Package: TO-236-3, SC-59, SOT-23-3; Drain to Source Voltage (Vdss): 20V
footprint DIODES SOT-23-3
pins: 1 G, 2 D, 3 S

## ZXMN2F30FHTA
designator IC?
MOSFET N-CH 20V 4.1A SOT23-3; Manufacturer: Diodes Incorporated; Rds On (Max) at Id, Vgs: 45 mOhm @ 2.5A, 4.5V; Vgs(th) (Max) at Id: 12V; Gate Charge (Qg): 4.8nC @ 4.5V; Input Capacitance (Ciss) at Vds: 452pF @ 10V; Current Continuous Drain: 4.1A (Ta); Part Number: ZXMN2F30FHTA; PartId: 29505; Supplier 1: Digi-Key; Supplier Part Number 1: ZXMN2F30FHCT-ND; ComponentLink1Description: Datasheet; ComponentLink1URL: http://www.diodes.com/_files/datasheets/ZXMN2F30FH.pdf; ComponentLink2Description: Digi-Key Listing; ComponentLink2URL: https://www.digikey.com/product-detail/en/diodes-incorporated/ZXMN2F30FHTA/ZXMN2F30FHCT-ND/1827776; Price: 0.73; Type: N-Channel; Device Package: TO-236-3, SC-59, SOT-23-3; Drain to Source Voltage (Vdss): 20V
footprint DIODES SOT-23-3
pins: 1 G, 2 D, 3 S

## ZXMN2F34FHTA
designator IC?
MOSFET N-CH 20V 3.4A SOT23-3; Manufacturer: Diodes Incorporated; Rds On (Max) at Id, Vgs: 60 mOhm @ 2.5A, 4.5V; Vgs(th) (Max) at Id: 12V; Gate Charge (Qg): 2.8nC @ 4.5V; Input Capacitance (Ciss) at Vds: 277pF @ 10V; Current Continuous Drain: 3.4A (Ta); Part Number: ZXMN2F34FHTA; PartId: 29535; Supplier 1: Digi-Key; Supplier Part Number 1: ZXMN2F34FHCT-ND; ComponentLink1Description: Datasheet; ComponentLink1URL: http://www.diodes.com/_files/datasheets/ZXMN2F34FH.pdf; ComponentLink2Description: Digi-Key Listing; ComponentLink2URL: https://www.digikey.com/product-detail/en/diodes-incorporated/ZXMN2F34FHTA/ZXMN2F34FHCT-ND/1827778; Price: 0.66; Type: N-Channel; Device Package: TO-236-3, SC-59, SOT-23-3; Drain to Source Voltage (Vdss): 20V
footprint DIODES SOT-23-3
pins: 1 G, 2 D, 3 S

## ZXMN3A01FTA
designator IC?
MOSFET N-CH 30V 1.8A SOT23-3; Manufacturer: Diodes Incorporated; Rds On (Max) at Id, Vgs: 120 mOhm @ 2.5A, 10V; Vgs(th) (Max) at Id: 20V; Gate Charge (Qg): 3.9nC @ 10V; Input Capacitance (Ciss) at Vds: 190pF @ 25V; Current Continuous Drain: 1.8A (Ta); Part Number: ZXMN3A01FTA; PartId: 29507; Supplier 1: Digi-Key; Supplier Part Number 1: ZXMN3A01FCT-ND; ComponentLink1Description: Datasheet; ComponentLink1URL: http://www.diodes.com/_files/datasheets/ZXMN3A01F.pdf; ComponentLink2Description: Digi-Key Listing; ComponentLink2URL: https://www.digikey.com/product-detail/en/diodes-incorporated/ZXMN3A01FTA/ZXMN3A01FCT-ND/386052; Price: 0.66; Type: N-Channel; Device Package: TO-236-3, SC-59, SOT-23-3; Drain to Source Voltage (Vdss): 30V
footprint DIODES SOT-23-3
pins: 1 G, 2 D, 3 S

## ZXMN3A14FTA
designator IC?
MOSFET N-CH 30V 3.2A SOT23-3; Manufacturer: Diodes Incorporated; Rds On (Max) at Id, Vgs: 65 mOhm @ 3.2A, 10V; Vgs(th) (Max) at Id: 20V; Gate Charge (Qg): 8.6nC @ 10V; Input Capacitance (Ciss) at Vds: 448pF @ 15V; Current Continuous Drain: 3.2A (Ta); Part Number: ZXMN3A14FTA; PartId: 29512; Supplier 1: Digi-Key; Supplier Part Number 1: ZXMN3A14FCT-ND; ComponentLink1Description: Datasheet; ComponentLink1URL: http://www.diodes.com/_files/datasheets/ZXMN3A14F.pdf; ComponentLink2Description: Digi-Key Listing; ComponentLink2URL: https://www.digikey.com/product-detail/en/diodes-incorporated/ZXMN3A14FTA/ZXMN3A14FCT-ND/560653; Price: 0.85; Type: N-Channel; Device Package: TO-236-3, SC-59, SOT-23-3; Drain to Source Voltage (Vdss): 30V
footprint DIODES SOT-23-3
pins: 1 G, 2 D, 3 S

## ZXMN3B01FTA
designator IC?
MOSFET N-CH 30V 1.7A SOT23-3; Manufacturer: Diodes Incorporated; Rds On (Max) at Id, Vgs: 150 mOhm @ 1.7A, 4.5V; Vgs(th) (Max) at Id: 12V; Gate Charge (Qg): 2.93nC @ 4.5V; Input Capacitance (Ciss) at Vds: 258pF @ 15V; Current Continuous Drain: 1.7A (Ta); Part Number: ZXMN3B01FTA; PartId: 29545; Supplier 1: Digi-Key; Supplier Part Number 1: ZXMN3B01FCT-ND; ComponentLink1Description: Datasheet; ComponentLink1URL: http://www.diodes.com/_files/datasheets/ZXMN3B01F.pdf; ComponentLink2Description: Digi-Key Listing; ComponentLink2URL: https://www.digikey.com/product-detail/en/diodes-incorporated/ZXMN3B01FTA/ZXMN3B01FCT-ND/1126765; Price: 0.76; Type: N-Channel; Device Package: TO-236-3, SC-59, SOT-23-3; Drain to Source Voltage (Vdss): 30V
footprint DIODES SOT-23-3
pins: 1 G, 2 D, 3 S

## ZXMN3B14FTA
designator IC?
MOSFET N-CH 30V 2.9A SOT23-3; Manufacturer: Diodes Incorporated; Rds On (Max) at Id, Vgs: 80 mOhm @ 3.1A, 4.5V; Vgs(th) (Max) at Id: 12V; Gate Charge (Qg): 6.7nC @ 4.5V; Input Capacitance (Ciss) at Vds: 568pF @ 15V; Current Continuous Drain: 2.9A (Ta); Part Number: ZXMN3B14FTA; PartId: 29549; Supplier 1: Digi-Key; Supplier Part Number 1: ZXMN3B14FCT-ND; ComponentLink1Description: Datasheet; ComponentLink1URL: http://www.diodes.com/_files/datasheets/ZXMN3B14F.pdf; ComponentLink2Description: Digi-Key Listing; ComponentLink2URL: https://www.digikey.com/product-detail/en/diodes-incorporated/ZXMN3B14FTA/ZXMN3B14FCT-ND/1211599; Price: 0.88; Type: N-Channel; Device Package: TO-236-3, SC-59, SOT-23-3; Drain to Source Voltage (Vdss): 30V
footprint DIODES SOT-23-3
pins: 1 G, 2 D, 3 S

## ZXMN3F30FHTA
designator IC?
MOSFET N-CH 30V 3.8A SOT23-3; Manufacturer: Diodes Incorporated; Rds On (Max) at Id, Vgs: 47 mOhm @ 3.2A, 10V; Vgs(th) (Max) at Id: 20V; Gate Charge (Qg): 7.7nC @ 10V; Input Capacitance (Ciss) at Vds: 318pF @ 15V; Current Continuous Drain: 3.8A (Ta); Part Number: ZXMN3F30FHTA; PartId: 29537; Supplier 1: Digi-Key; Supplier Part Number 1: ZXMN3F30FHCT-ND; ComponentLink1Description: Datasheet; ComponentLink1URL: http://www.diodes.com/_files/datasheets/ZXMN3F30FH.pdf; ComponentLink2Description: Digi-Key Listing; ComponentLink2URL: https://www.digikey.com/product-detail/en/diodes-incorporated/ZXMN3F30FHTA/ZXMN3F30FHCT-ND/1827782; Price: 0.73; Type: N-Channel; Device Package: TO-236-3, SC-59, SOT-23-3; Drain to Source Voltage (Vdss): 30V
footprint DIODES SOT-23-3
pins: 1 G, 2 D, 3 S

## ZXMN4A06GTA
designator IC?
MOSFET N-CH 40V 5A SOT223; Manufacturer: Diodes Incorporated; Rds On (Max) at Id, Vgs: 50 mOhm @ 4.5A, 10V; Vgs(th) (Max) at Id: 1V @ 250uA; Gate Charge (Qg): 18.2nC @ 10V; Input Capacitance (Ciss) at Vds: 770pF @ 40V; Power - Max: 2W; Current Continuous Drain: 5A (Ta); Part Number: ZXMN4A06GTA; PartId: 8096; Supplier 1: Digi-Key; Supplier Part Number 1: ZXMN4A06GTR-ND; ComponentLink1Description: Datasheet; ComponentLink1URL: http://www.diodes.com/_files/datasheets/ZXMN4A06G.pdf; ComponentLink2Description: Digi-Key Listing; ComponentLink2URL: http://www.digikey.com/product-detail/en/ZXMN4A06GTA/ZXMN4A06GTR-ND/504788; Price: 0.336; Type: MOSFET N-Channel, Metal Oxide; Device Package: TO-261-4, TO-261AA; Drain to Source Voltage (Vdss): 40V; Features: Standard
footprint DIODES SOT-223
pins: 1 G, 2 D, 3 S, 4 D

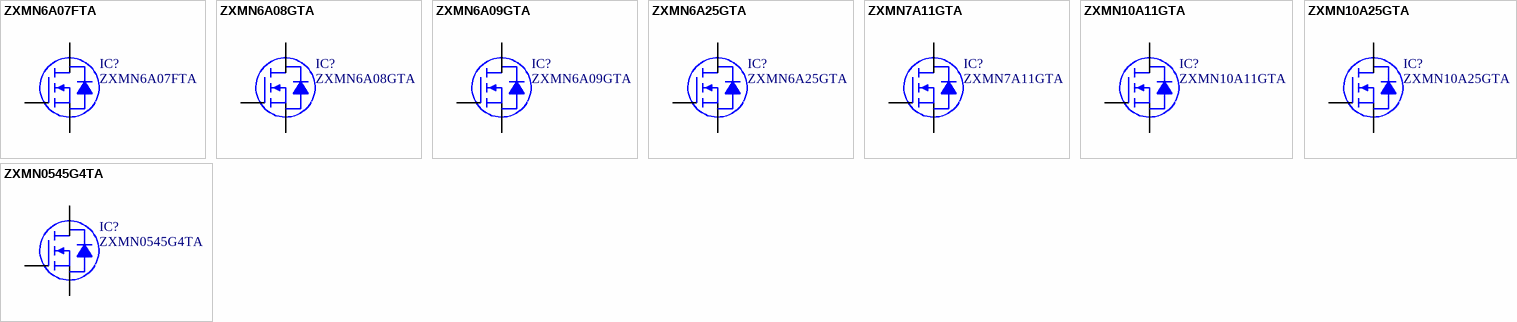
[diagram p11: symbols ZXMN6A07FTA to ZXMN0545G4TA]

## ZXMN6A07FTA
designator IC?
MOSFET N-CH 60V 1.2A SOT23-3; Manufacturer: Diodes Incorporated; Rds On (Max) at Id, Vgs: 250 mOhm @ 1.8A, 10V; Vgs(th) (Max) at Id: 20V; Gate Charge (Qg): 3.2nC @ 10V; Input Capacitance (Ciss) at Vds: 166pF @ 40V; Current Continuous Drain: 1.2A (Ta); Part Number: ZXMN6A07FTA; PartId: 29509; Supplier 1: Digi-Key; Supplier Part Number 1: ZXMN6A07FCT-ND; ComponentLink1Description: Datasheet; ComponentLink1URL: http://www.diodes.com/_files/datasheets/ZXMN6A07F.pdf; ComponentLink2Description: Digi-Key Listing; ComponentLink2URL: https://www.digikey.com/product-detail/en/diodes-incorporated/ZXMN6A07FTA/ZXMN6A07FCT-ND/386059; Price: 0.66; Type: N-Channel; Device Package: TO-236-3, SC-59, SOT-23-3; Drain to Source Voltage (Vdss): 60V
footprint DIODES SOT-23-3
pins: 1 G, 2 D, 3 S

## ZXMN6A08GTA
designator IC?
MOSFET N-CH 60V 3.8A SOT223; Manufacturer: Diodes Incorporated; Rds On (Max) at Id, Vgs: 80 mOhm @ 4.8A, 10V; Vgs(th) (Max) at Id: 20V; Gate Charge (Qg): 5.8nC @ 10V; Input Capacitance (Ciss) at Vds: 459pF @ 40V; Current Continuous Drain: 3.8A (Ta); Part Number: ZXMN6A08GTA; PartId: 29654; Supplier 1: Digi-Key; Supplier Part Number 1: ZXMN6A08GCT-ND; ComponentLink1Description: Datasheet; ComponentLink1URL: http://www.diodes.com/_files/datasheets/ZXMN6A08G.pdf; ComponentLink2Description: Digi-Key Listing; ComponentLink2URL: https://www.digikey.com/product-detail/en/diodes-incorporated/ZXMN6A08GTA/ZXMN6A08GCT-ND/1089913; Price: 1.04; Type: N-Channel; Device Package: TO-261-4, TO-261AA; Drain to Source Voltage (Vdss): 60V
footprint DIODES SOT-223
pins: 1 G, 2 D, 3 S, 4 D

## ZXMN6A09GTA
designator IC?
MOSFET N-CH 60V 6.9A SOT223; Manufacturer: Diodes Incorporated; Rds On (Max) at Id, Vgs: 40 mOhm @ 8.2A, 10V; Vgs(th) (Max) at Id: 20V; Gate Charge (Qg): 24.2nC @ 5V; Input Capacitance (Ciss) at Vds: 1407pF @ 40V; Current Continuous Drain: 5.4A (Ta); Part Number: ZXMN6A09GTA; PartId: 29652; Supplier 1: Digi-Key; Supplier Part Number 1: ZXMN6A09GCT-ND; ComponentLink1Description: Datasheet; ComponentLink1URL: http://www.diodes.com/_files/datasheets/ZXMN6A09G.pdf; ComponentLink2Description: Digi-Key Listing; ComponentLink2URL: https://www.digikey.com/product-detail/en/diodes-incorporated/ZXMN6A09GTA/ZXMN6A09GCT-ND/560657; Price: 1.72; Type: N-Channel; Device Package: TO-261-4, TO-261AA; Drain to Source Voltage (Vdss): 60V
footprint DIODES SOT-223
pins: 1 G, 2 D, 3 S, 4 D

## ZXMN6A25GTA
designator IC?
MOSFET N-CH 60V SOT223; Manufacturer: Diodes Incorporated; Rds On (Max) at Id, Vgs: 50 mOhm @ 3.6A, 10V; Vgs(th) (Max) at Id: 20V; Gate Charge (Qg): 20.4nC @ 10V; Input Capacitance (Ciss) at Vds: 1063pF @ 30V; Current Continuous Drain: 4.8A (Ta); Part Number: ZXMN6A25GTA; PartId: 29650; Supplier 1: Digi-Key; Supplier Part Number 1: ZXMN6A25GTACT-ND; ComponentLink1Description: Datasheet; ComponentLink1URL: //media.digikey.com/pdf/Data%20Sheets/Zetex%20PDFs/ZXMN6A25G.pdf; ComponentLink2Description: Digi-Key Listing; ComponentLink2URL: https://www.digikey.com/product-detail/en/diodes-incorporated/ZXMN6A25GTA/ZXMN6A25GTACT-ND/1873962; Price: 1.5; Type: N-Channel; Device Package: TO-261-4, TO-261AA; Drain to Source Voltage (Vdss): 60V
footprint DIODES SOT-223
pins: 1 G, 2 D, 3 S, 4 D

## ZXMN7A11GTA
designator IC?
MOSFET N-CH 70V 3.8A SOT-223; Manufacturer: Diodes Incorporated; Rds On (Max) at Id, Vgs: 130 mOhm @ 4.4A, 10V; Vgs(th) (Max) at Id: 20V; Gate Charge (Qg): 7.4nC @ 10V; Input Capacitance (Ciss) at Vds: 298pF @ 40V; Current Continuous Drain: 2.7A (Ta); Part Number: ZXMN7A11GTA; PartId: 29646; Supplier 1: Digi-Key; Supplier Part Number 1: ZXMN7A11GCT-ND; ComponentLink1Description: Datasheet; ComponentLink1URL: http://www.diodes.com/_files/datasheets/ZXMN7A11G.pdf; ComponentLink2Description: Digi-Key Listing; ComponentLink2URL: https://www.digikey.com/product-detail/en/diodes-incorporated/ZXMN7A11GTA/ZXMN7A11GCT-ND/1089914; Price: 1.19; Type: N-Channel; Device Package: TO-261-4, TO-261AA; Drain to Source Voltage (Vdss): 70V
footprint DIODES SOT-223
pins: 1 G, 2 D, 3 S, 4 D

## ZXMN10A11GTA
designator IC?
MOSFET N-CH 100V 1.7A SOT223; Manufacturer: Diodes Incorporated; Rds On (Max) at Id, Vgs: 350 mOhm @ 2.6A, 10V; Vgs(th) (Max) at Id: 20V; Gate Charge (Qg): 5.4nC @ 10V; Input Capacitance (Ciss) at Vds: 274pF @ 50V; Current Continuous Drain: 1.7A (Ta); Part Number: ZXMN10A11GTA; PartId: 29655; Supplier 1: Digi-Key; Supplier Part Number 1: ZXMN10A11GCT-ND; ComponentLink1Description: Datasheet; ComponentLink1URL: //media.digikey.com/pdf/Data%20Sheets/Diodes%20PDFs/ZXMN10A11G.pdf; ComponentLink2Description: Digi-Key Listing; ComponentLink2URL: https://www.digikey.com/product-detail/en/diodes-incorporated/ZXMN10A11GTA/ZXMN10A11GCT-ND/386061; Price: 1.04; Type: N-Channel; Device Package: TO-261-4, TO-261AA; Drain to Source Voltage (Vdss): 100V
footprint DIODES SOT-223
pins: 1 G, 2 D, 3 S, 4 D

## ZXMN10A25GTA
designator IC?
MOSFET N-CH 100V 2.9A SOT223; Manufacturer: Diodes Incorporated; Rds On (Max) at Id, Vgs: 125 mOhm @ 2.9A, 10V; Vgs(th) (Max) at Id: 20V; Gate Charge (Qg): 17nC @ 10V; Input Capacitance (Ciss) at Vds: 859pF @ 50V; Current Continuous Drain: 2.9A (Ta); Part Number: ZXMN10A25GTA; PartId: 29661; Supplier 1: Digi-Key; Supplier Part Number 1: ZXMN10A25GTACT-ND; ComponentLink1Description: Datasheet; ComponentLink1URL: //media.digikey.com/pdf/Data%20Sheets/Zetex%20PDFs/ZXMN10A25G.pdf; ComponentLink2Description: Digi-Key Listing; ComponentLink2URL: https://www.digikey.com/product-detail/en/diodes-incorporated/ZXMN10A25GTA/ZXMN10A25GTACT-ND/1137297; Price: 1.72; Type: N-Channel; Device Package: TO-261-4, TO-261AA; Drain to Source Voltage (Vdss): 100V
footprint DIODES SOT-223
pins: 1 G, 2 D, 3 S, 4 D

## ZXMN0545G4TA
designator IC?
MOSFET N-CH 450V 140MA SOT-223; Manufacturer: Diodes Incorporated; Rds On (Max) at Id, Vgs: 50 Ohm @ 100mA, 10V; Vgs(th) (Max) at Id: 20V; Input Capacitance (Ciss) at Vds: 70pF @ 25V; Current Continuous Drain: 140mA (Ta); Part Number: ZXMN0545G4TA; PartId: 29651; Supplier 1: Digi-Key; Supplier Part Number 1: ZXMN0545G4CT-ND; ComponentLink1Description: Datasheet; ComponentLink1URL: http://www.diodes.com/_files/datasheets/ZXMN0545G4.pdf; ComponentLink2Description: Digi-Key Listing; ComponentLink2URL: https://www.digikey.com/product-detail/en/diodes-incorporated/ZXMN0545G4TA/ZXMN0545G4CT-ND/1089912; Price: 1.57; Type: N-Channel; Device Package: TO-261-4, TO-261AA; Drain to Source Voltage (Vdss): 450V
footprint DIODES SOT-223
pins: 1 G, 2 D, 3 S, 4 D